# Altium schematic symbol library RES.SchLib: 321 symbols (part 3 of 3)
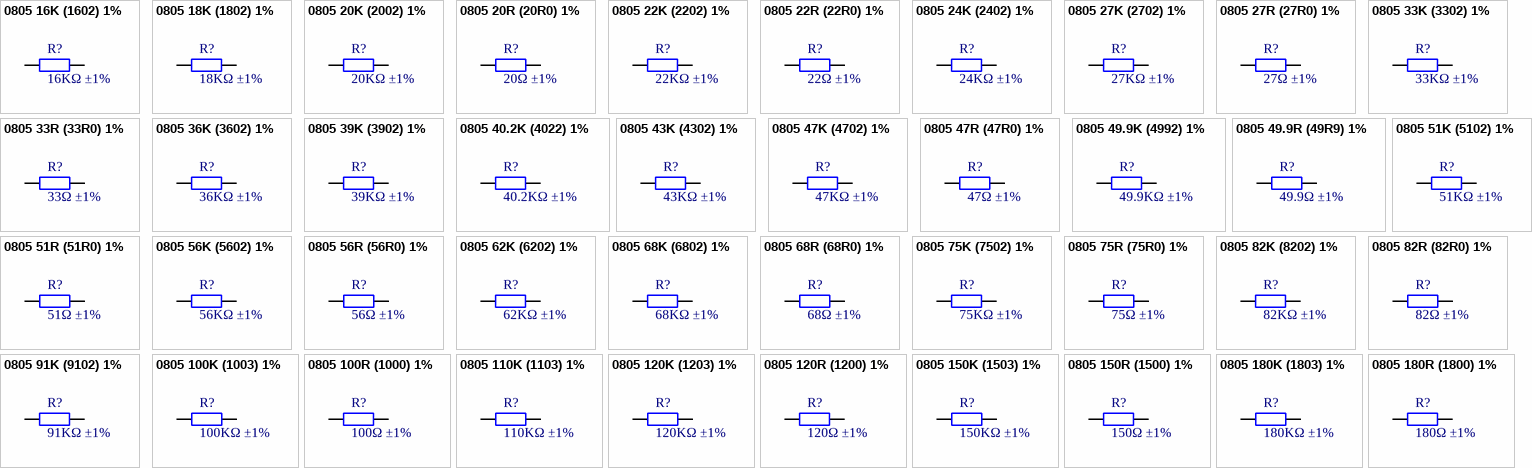
[diagram p10: symbols 0805 16K (1602) 1% to 0805 180R (1800) 1%]

## 0805 150R (1500) 1%
designator R?, comment 150Ω ±1%
Chip resistor; Manufacturer: Uniroyal Elec; Power: 1/8W; ComponentLink1Description: Supplier link; ComponentLink1URL: http://www.szlcsc.com/product/details_18159.html; Package: 0805; Supplier: LC; SuppliersPartNumber: C17471; Tolerance: 1%
footprint 0805_R
pins: 1, 2

## 0805 180K (1803) 1%
designator R?, comment 180KΩ ±1%
Chip resistor; Manufacturer: Uniroyal Elec; Power: 1/8W; ComponentLink1Description: Supplier link; ComponentLink1URL: http://www.szlcsc.com/product/details_18189.html; Package: 0805; Supplier: LC; SuppliersPartNumber: C17501; Tolerance: 1%
footprint 0805_R
pins: 1, 2

## 0805 180R (1800) 1%
designator R?, comment 180Ω ±1%
Chip resistor; Manufacturer: Uniroyal Elec; Power: 1/8W; ComponentLink1Description: Supplier link; ComponentLink1URL: http://www.szlcsc.com/product/details_26013.html; Package: 0805; Supplier: LC; SuppliersPartNumber: C25270; Tolerance: 1%
footprint 0805_R
pins: 1, 2

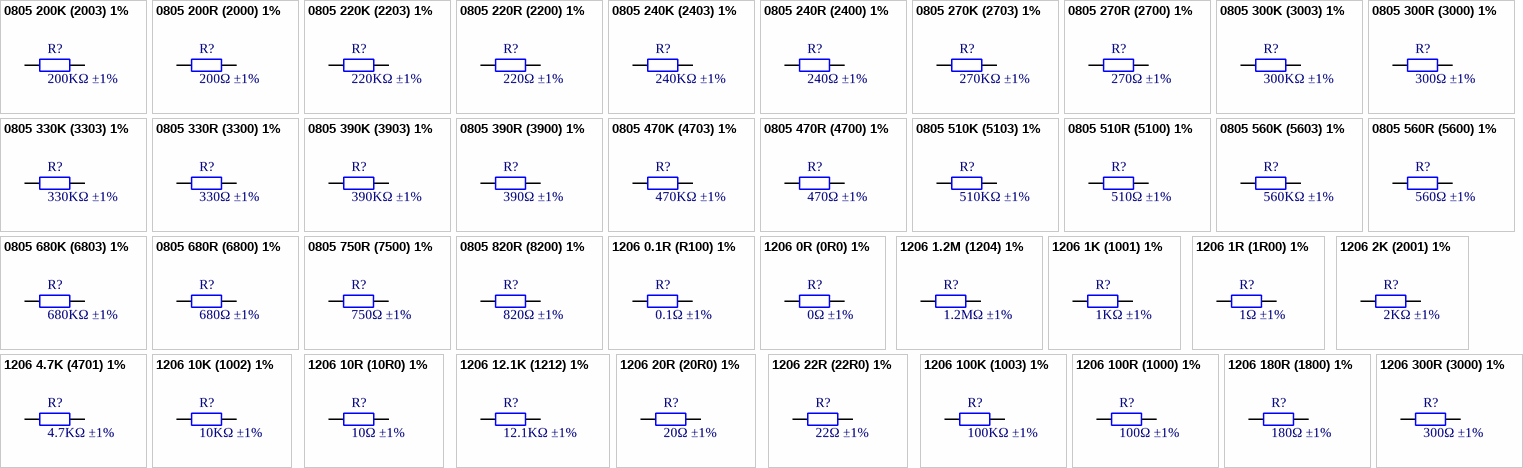
[diagram p7: symbols 0805 200K (2003) 1% to 1206 300R (3000) 1%]

## 0805 200K (2003) 1%
designator R?, comment 200KΩ ±1%
Chip resistor; Manufacturer: Uniroyal Elec; Power: 1/8W; ComponentLink1Description: Supplier link; ComponentLink1URL: http://www.szlcsc.com/product/details_18227.html; Package: 0805; Supplier: LC; SuppliersPartNumber: C17539; Tolerance: 1%
footprint 0805_R
pins: 1, 2

## 0805 200R (2000) 1%
designator R?, comment 200Ω ±1%
Chip resistor; Manufacturer: Uniroyal Elec; Power: 1/8W; ComponentLink1Description: Supplier link; ComponentLink1URL: http://www.szlcsc.com/product/details_18228.html; Package: 0805; Supplier: LC; SuppliersPartNumber: C17540; Tolerance: 1%
footprint 0805_R
pins: 1, 2

## 0805 220K (2203) 1%
designator R?, comment 220KΩ ±1%
Chip resistor; Manufacturer: Uniroyal Elec; Power: 1/8W; ComponentLink1Description: Supplier link; ComponentLink1URL: http://www.szlcsc.com/product/details_18244.html; Package: 0805; Supplier: LC; SuppliersPartNumber: C17556; Tolerance: 1%
footprint 0805_R
pins: 1, 2

## 0805 220R (2200) 1%
designator R?, comment 220Ω ±1%
Chip resistor; Manufacturer: Uniroyal Elec; Power: 1/8W; ComponentLink1Description: Supplier link; ComponentLink1URL: http://www.szlcsc.com/product/details_18245.html; Package: 0805; Supplier: LC; SuppliersPartNumber: C17557; Tolerance: 1%
footprint 0805_R
pins: 1, 2

## 0805 240K (2403) 1%
designator R?, comment 240KΩ ±1%
Chip resistor; Manufacturer: Uniroyal Elec; Power: 1/8W; ComponentLink1Description: Supplier link; ComponentLink1URL: http://www.szlcsc.com/product/details_26567.html; Package: 0805; Supplier: LC; SuppliersPartNumber: C25824; Tolerance: 1%
footprint 0805_R
pins: 1, 2

## 0805 240R (2400) 1%
designator R?, comment 240Ω ±1%
Chip resistor; Manufacturer: Uniroyal Elec; Power: 1/8W; ComponentLink1Description: Supplier link; ComponentLink1URL: http://www.szlcsc.com/product/details_18260.html; Package: 0805; Supplier: LC; SuppliersPartNumber: C17572; Tolerance: 1%
footprint 0805_R
pins: 1, 2

## 0805 270K (2703) 1%
designator R?, comment 270KΩ ±1%
Chip resistor; Manufacturer: Uniroyal Elec; Power: 1/8W; ComponentLink1Description: Supplier link; ComponentLink1URL: http://www.szlcsc.com/product/details_18277.html; Package: 0805; Supplier: LC; SuppliersPartNumber: C17589; Tolerance: 1%
footprint 0805_R
pins: 1, 2

## 0805 270R (2700) 1%
designator R?, comment 270Ω ±1%
Chip resistor; Manufacturer: Uniroyal Elec; Power: 1/8W; ComponentLink1Description: Supplier link; ComponentLink1URL: http://www.szlcsc.com/product/details_18278.html; Package: 0805; Supplier: LC; SuppliersPartNumber: C17590; Tolerance: 1%
footprint 0805_R
pins: 1, 2

## 0805 300K (3003) 1%
designator R?, comment 300KΩ ±1%
Chip resistor; Manufacturer: Uniroyal Elec; Power: 1/8W; ComponentLink1Description: Supplier link; ComponentLink1URL: http://www.szlcsc.com/product/details_18304.html; Package: 0805; Supplier: LC; SuppliersPartNumber: C17616; Tolerance: 1%
footprint 0805_R
pins: 1, 2

## 0805 300R (3000) 1%
designator R?, comment 300Ω ±1%
Chip resistor; Manufacturer: Uniroyal Elec; Power: 1/8W; ComponentLink1Description: Supplier link; ComponentLink1URL: http://www.szlcsc.com/product/details_18305.html; Package: 0805; Supplier: LC; SuppliersPartNumber: C17617; Tolerance: 1%
footprint 0805_R
pins: 1, 2

## 0805 330K (3303) 1%
designator R?, comment 330KΩ ±1%
Chip resistor; Manufacturer: Uniroyal Elec; Power: 1/8W; ComponentLink1Description: Supplier link; ComponentLink1URL: http://www.szlcsc.com/product/details_18317.html; Package: 0805; Supplier: LC; SuppliersPartNumber: C17629; Tolerance: 1%
footprint 0805_R
pins: 1, 2

## 0805 330R (3300) 1%
designator R?, comment 330Ω ±1%
Chip resistor; Manufacturer: Uniroyal Elec; Power: 1/8W; ComponentLink1Description: Supplier link; ComponentLink1URL: http://www.szlcsc.com/product/details_18318.html; Package: 0805; Supplier: LC; SuppliersPartNumber: C17630; Tolerance: 1%
footprint 0805_R
pins: 1, 2

## 0805 390K (3903) 1%
designator R?, comment 390KΩ ±1%
Chip resistor; Manufacturer: Uniroyal Elec; Power: 1/8W; ComponentLink1Description: Supplier link; ComponentLink1URL: http://www.szlcsc.com/product/details_18344.html; Package: 0805; Supplier: LC; SuppliersPartNumber: C17656; Tolerance: 1%
footprint 0805_R
pins: 1, 2

## 0805 390R (3900) 1%
designator R?, comment 390Ω ±1%
Chip resistor; Manufacturer: Uniroyal Elec; Power: 1/8W; ComponentLink1Description: Supplier link; ComponentLink1URL: http://www.szlcsc.com/product/details_18343.html; Package: 0805; Supplier: LC; SuppliersPartNumber: C17655; Tolerance: 1%
footprint 0805_R
pins: 1, 2

## 0805 470K (4703) 1%
designator R?, comment 470KΩ ±1%
Chip resistor; Manufacturer: Uniroyal Elec; Power: 1/8W; ComponentLink1Description: Supplier link; ComponentLink1URL: http://www.szlcsc.com/product/details_18397.html; Package: 0805; Supplier: LC; SuppliersPartNumber: C17709; Tolerance: 1%
footprint 0805_R
pins: 1, 2

## 0805 470R (4700) 1%
designator R?, comment 470Ω ±1%
Chip resistor; Manufacturer: Uniroyal Elec; Power: 1/8W; ComponentLink1Description: Supplier link; ComponentLink1URL: http://www.szlcsc.com/product/details_18398.html; Package: 0805; Supplier: LC; SuppliersPartNumber: C17710; Tolerance: 1%
footprint 0805_R
pins: 1, 2

## 0805 510K (5103) 1%
designator R?, comment 510KΩ ±1%
Chip resistor; Manufacturer: Uniroyal Elec; PartNumber: 0805W8F5103T5E; Power: 1/8W; ComponentLink1Description: Supplier link; ComponentLink1URL: http://www.szlcsc.com/product/details_18421.html; Package: 0805; Supplier: LC; SuppliersPartNumber: C17733; Resistance: 510KΩ; Tolerance: 1%
footprint 0805_R
pins: 1, 2

## 0805 510R (5100) 1%
designator R?, comment 510Ω ±1%
Chip resistor; Manufacturer: Uniroyal Elec; PartNumber: 0805W8F5100T5E; Power: 1/8W; ComponentLink1Description: Supplier link; ComponentLink1URL: http://www.szlcsc.com/product/details_18422.html; Package: 0805; Supplier: LC; SuppliersPartNumber: C17734; Resistance: 510Ω; Tolerance: 1%
footprint 0805_R
pins: 1, 2

## 0805 560K (5603) 1%
designator R?, comment 560KΩ ±1%
Chip resistor; Manufacturer: Uniroyal Elec; Power: 1/8W; ComponentLink1Description: Supplier link; ComponentLink1URL: http://www.szlcsc.com/product/details_16467.html; Package: 0805; Supplier: LC; SuppliersPartNumber: C15785; Tolerance: 1%
footprint 0805_R
pins: 1, 2

## 0805 560R (5600) 1%
designator R?, comment 560Ω ±1%
Chip resistor; Manufacturer: Uniroyal Elec; Power: 1/8W; ComponentLink1Description: Supplier link; ComponentLink1URL: http://www.szlcsc.com/product/details_29388.html; Package: 0805; Supplier: LC; SuppliersPartNumber: C28636; Tolerance: 1%
footprint 0805_R
pins: 1, 2

## 0805 680K (6803) 1%
designator R?, comment 680KΩ ±1%
Chip resistor; Manufacturer: Uniroyal Elec; Power: 1/8W; ComponentLink1Description: Supplier link; ComponentLink1URL: http://www.szlcsc.com/product/details_18485.html; Package: 0805; Supplier: LC; SuppliersPartNumber: C17797; Tolerance: 1%
footprint 0805_R
pins: 1, 2

## 0805 680R (6800) 1%
designator R?, comment 680Ω ±1%
Chip resistor; Manufacturer: Uniroyal Elec; Power: 1/8W; ComponentLink1Description: Supplier link; ComponentLink1URL: http://www.szlcsc.com/product/details_18486.html; Package: 0805; Supplier: LC; SuppliersPartNumber: C17798; Tolerance: 1%
footprint 0805_R
pins: 1, 2

## 0805 750R (7500) 1%
designator R?, comment 750Ω ±1%
Chip resistor; Manufacturer: Uniroyal Elec; Power: 1/8W; ComponentLink1Description: Supplier link; ComponentLink1URL: http://www.szlcsc.com/product/details_18506.html; Package: 0805; Supplier: LC; SuppliersPartNumber: C17818; Tolerance: 1%
footprint 0805_R
pins: 1, 2

## 0805 820R (8200) 1%
designator R?, comment 820Ω ±1%
Chip resistor; Manufacturer: Uniroyal Elec; Power: 1/8W; ComponentLink1Description: Supplier link; ComponentLink1URL: http://www.szlcsc.com/product/details_18525.html; Package: 0805; Supplier: LC; SuppliersPartNumber: C17837; Tolerance: 1%
footprint 0805_R
pins: 1, 2

## 1206 0.1R (R100) 1%
designator R?, comment 0.1Ω ±1%
Chip resistor; Manufacturer: Uniroyal Elec; Power: 1/4W; ComponentLink1Description: Supplier link; ComponentLink1URL: http://www.szlcsc.com/product/details_26077.html; Package: 1206; Supplier: LC; SuppliersPartNumber: C25334; Tolerance: 1%
footprint 1206_R
pins: 1, 2

## 1206 0R (0R0) 1%
designator R?, comment 0Ω ±1%
Chip resistor; Manufacturer: Uniroyal Elec; Power: 1/4W; ComponentLink1Description: Supplier link; ComponentLink1URL: http://www.szlcsc.com/product/details_18576.html; Package: 1206; Supplier: LC; SuppliersPartNumber: C17888; Tolerance: 1%
footprint 1206_R
pins: 1, 2

## 1206 1.2M (1204) 1%
designator R?, comment 1.2MΩ ±1%
Chip resistor; Manufacturer: Uniroyal Elec; Power: 1/4W; ComponentLink1Description: Supplier link; ComponentLink1URL: http://www.szlcsc.com/product/details_22832.html; Package: 1206; Supplier: LC; SuppliersPartNumber: C22107; Tolerance: 1%
footprint 1206_R
pins: 1, 2

## 1206 1K (1001) 1%
designator R?, comment 1KΩ ±1%
Chip resistor; Manufacturer: Uniroyal Elec; Power: 1/4W; ComponentLink1Description: Supplier link; ComponentLink1URL: http://www.szlcsc.com/product/details_4817.html; Package: 1206; Supplier: LC; SuppliersPartNumber: C4410; Tolerance: 1%
footprint 1206_R
pins: 1, 2

## 1206 1R (1R00) 1%
designator R?, comment 1Ω ±1%
Chip resistor; Manufacturer: Uniroyal Elec; Power: 1/4W; ComponentLink1Description: Supplier link; ComponentLink1URL: http://www.szlcsc.com/product/details_18616.html; Package: 1206; Supplier: LC; SuppliersPartNumber: C17928; Tolerance: 1%
footprint 1206_R
pins: 1, 2

## 1206 2K (2001) 1%
designator R?, comment 2KΩ ±1%
Chip resistor; Manufacturer: Uniroyal Elec; Power: 1/4W; ComponentLink1Description: Supplier link; ComponentLink1URL: http://www.szlcsc.com/product/details_18632.html; Package: 1206; Supplier: LC; SuppliersPartNumber: C17944; Tolerance: 1%
footprint 1206_R
pins: 1, 2

## 1206 4.7K (4701) 1%
designator R?, comment 4.7KΩ ±1%
Chip resistor; Manufacturer: Uniroyal Elec; Power: 1/4W; ComponentLink1Description: Supplier link; ComponentLink1URL: http://www.szlcsc.com/product/details_18624.html; Package: 1206; Supplier: LC; SuppliersPartNumber: C17936; Tolerance: 1%
footprint 1206_R
pins: 1, 2

## 1206 10K (1002) 1%
designator R?, comment 10KΩ ±1%
Chip resistor; Manufacturer: Uniroyal Elec; Power: 1/4W; ComponentLink1Description: Supplier link; ComponentLink1URL: http://www.szlcsc.com/product/details_18590.html; Package: 1206; Supplier: LC; SuppliersPartNumber: C17902; Tolerance: 1%
footprint 1206_R
pins: 1, 2

## 1206 10R (10R0) 1%
designator R?, comment 10Ω ±1%
Chip resistor; Manufacturer: Uniroyal Elec; Power: 1/4W; ComponentLink1Description: Supplier link; ComponentLink1URL: http://www.szlcsc.com/product/details_18591.html; Package: 1206; Supplier: LC; SuppliersPartNumber: C17903; Tolerance: 1%
footprint 1206_R
pins: 1, 2

## 1206 12.1K (1212) 1%
designator R?, comment 12.1KΩ ±1%
Chip resistor; Manufacturer: Uniroyal Elec; Power: 1/4W; ComponentLink1Description: Supplier link; ComponentLink1URL: https://item.szlcsc.com/244599.html; Package: 1206; Supplier: LC; SuppliersPartNumber: C247391; Tolerance: 1%
footprint 1206_R
pins: 1, 2

## 1206 20R (20R0) 1%
designator R?, comment 20Ω ±1%
Chip resistor; Manufacturer: Uniroyal Elec; Power: 1/4W; ComponentLink1Description: Supplier link; ComponentLink1URL: http://www.szlcsc.com/product/details_18643.html; Package: 1206; Supplier: LC; SuppliersPartNumber: C17955; Tolerance: 1%
footprint 1206_R
pins: 1, 2

## 1206 22R (22R0) 1%
designator R?, comment 22Ω ±1%
Chip resistor; Manufacturer: Uniroyal Elec; Power: 1/4W; ComponentLink1Description: Supplier link; ComponentLink1URL: http://www.szlcsc.com/product/details_18646.html; Package: 1206; Supplier: LC; SuppliersPartNumber: C17958; Tolerance: 1%
footprint 1206_R
pins: 1, 2

## 1206 100K (1003) 1%
designator R?, comment 100KΩ ±1%
Chip resistor; Manufacturer: Uniroyal Elec; Power: 1/4W; ComponentLink1Description: Supplier link; ComponentLink1URL: http://www.szlcsc.com/product/details_18588.html; Package: 1206; Supplier: LC; SuppliersPartNumber: C17900; Tolerance: 1%
footprint 1206_R
pins: 1, 2

## 1206 100R (1000) 1%
designator R?, comment 100Ω ±1%
Chip resistor; Manufacturer: Uniroyal Elec; Power: 1/4W; ComponentLink1Description: Supplier link; ComponentLink1URL: http://www.szlcsc.com/product/details_18589.html; Package: 1206; Supplier: LC; SuppliersPartNumber: C17901; Tolerance: 1%
footprint 1206_R
pins: 1, 2

## 1206 180R (1800) 1%
designator R?, comment 180Ω ±1%
Chip resistor; Manufacturer: Uniroyal Elec; Power: 1/4W; ComponentLink1Description: Supplier link; ComponentLink1URL: http://www.szlcsc.com/product/details_18612.html; Package: 1206; Supplier: LC; SuppliersPartNumber: C17924; Tolerance: 1%
footprint 1206_R
pins: 1, 2

## 1206 300R (3000) 1%
designator R?, comment 300Ω ±1%
Chip resistor; Manufacturer: Uniroyal Elec; Power: 1/4W; ComponentLink1Description: Supplier link; ComponentLink1URL: http://www.szlcsc.com/product/details_18575.html; Package: 1206; Supplier: LC; SuppliersPartNumber: C17887; Tolerance: 1%
footprint 1206_R
pins: 1, 2

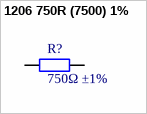
[diagram p8: symbol 1206 750R (7500) 1%]

## 1206 750R (7500) 1%
designator R?, comment 750Ω ±1%
Chip resistor; Manufacturer: Uniroyal Elec; Power: 1/4W; ComponentLink1Description: Supplier link; ComponentLink1URL: http://www.szlcsc.com/product/details_18673.html; Package: 1206; Supplier: LC; SuppliersPartNumber: C17985; Tolerance: 1%
footprint 1206_R
pins: 1, 2